# EAGLE library part 74*11 (library kmod-ics)
Triple 3-input AND gate
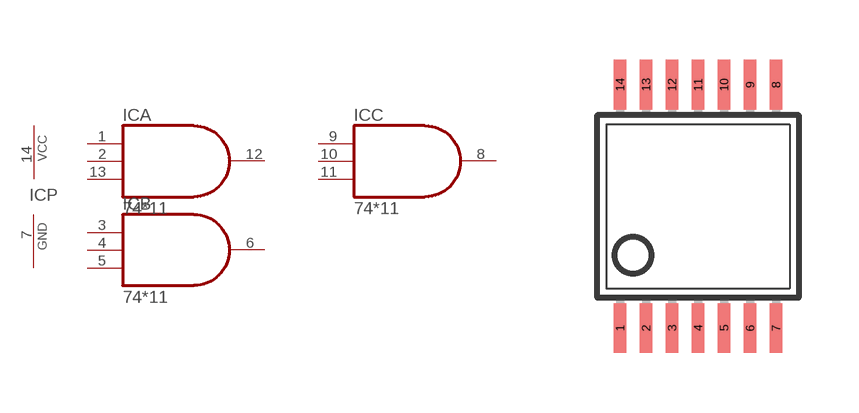
[diagram p5: symbol with the pads of TSSOP14; footprint TSSOP14]

Designator prefix IC; gates A=7411 B=7411 C=7411 P=PWRN

## 7411  [TSSOP14]
1  A:I0  in
2  A:I1  in
3  B:I0  in
4  B:I1  in
5  B:I2  in
6  B:O  out
7  P:GND  pwr
8  C:O  out
9  C:I0  in
10  C:I1  in
11  C:I2  in
12  A:O  out
13  A:I2  in
14  P:VCC  pwr

## Footprint TSSOP14 (pad centres in mm)
Thin Shrink Small Outline Plastic 14, 4.40mm width Forget where I copied from, but seems to work well. Could maybe make pads longer for easier hand-soldering. - ok made them longer by 10mil (0.25mm); they now stick past the end by about 0.5mm
smd 0.305 x 1.245: 1 -1.95,-3.045; 2 -1.3,-3.045; 3 -0.65,-3.045; 4 0,-3.045; 5 0.65,-3.045; 6 1.3,-3.045; 7 1.95,-3.045; 8 1.95,3.045; 9 1.3,3.045; 10 0.65,3.045; 11 0,3.045; 12 -0.65,3.045; 13 -1.3,3.045; 14 -1.95,3.045